# Altium integrated library DROSSEL_TOR_50X30X20X3.IntLib: 1 symbol
Pins are listed as number, name and electrical type; pins without a type are passive.

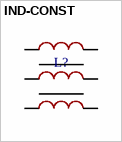
[diagram p0: symbol IND-CONST]

## IND-CONST
designator L?
footprint DROSSEL_TOR_50X30X20X3
pins: 1, 2, 3, 4, 5, 6